# Altium schematic symbol library TPS3828.SchLib: 1 symbol
Pins are listed as number, name and electrical type; pins without a type are passive.

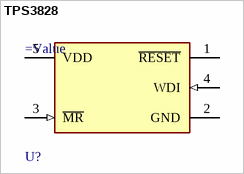
[diagram p0: symbol TPS3828]

## TPS3828
designator U?
IC SUPERVISOR 1 CHANNEL SOT23-5
pins: 1 ~{RESET} (oc), 2 GND (power), 3 ~{MR} (in), 4 WDI (in), 5 VDD (power)